# EAGLE library part CONNECTOR-HEADER-8P (library OPL)
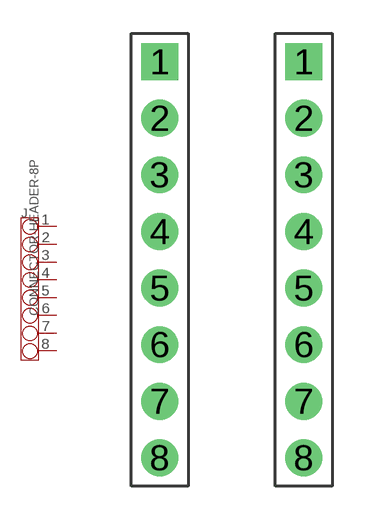
[diagram p13: symbol with the pads of 1X8P-2.54-2.54-11.6-3.0-BALCK-MALE; footprints 1X8P-2.54-2.54-11.6-3.0-BALCK-MALE, 1X8P-2.54-8.5+2.5-12.3-BLUE-FEMALE]

Designator prefix J

## CONNECTOR-HEADER-8P-3461050P1  [1X8P-2.54-2.54-11.6-3.0-BALCK-MALE]
1  1
2  2
3  3
4  4
5  5
6  6
7  7
8  8

## CONNECTOR-HEADER-8P-3461260P1  [1X8P-2.54-8.5+2.5-12.3-BLUE-FEMALE]
Pads as for 1X8P-2.54-2.54-11.6-3.0-BALCK-MALE

## CONNECTOR-HEADER-8P-3460290P1  [1X8P-2.54-8.5-BLACK-FEMALE]
Pads as for 1X8P-2.54-2.54-11.6-3.0-BALCK-MALE

## CONNECTOR-HEADER-8P-3460550P1  [1X8P-2.54-8.5-WHITE-FEMALE]
Pads as for 1X8P-2.54-2.54-11.6-3.0-BALCK-MALE

## CONNECTOR-HEADER-8P-3460590P1  [1X8P-2.54-8.5-YELLOW-FEMALE]
Pads as for 1X8P-2.54-2.54-11.6-3.0-BALCK-MALE

## Footprint 1X8P-2.54-2.54-11.6-3.0-BALCK-MALE (pad centres in mm)
drill 0.889 pad 1.651 square: 1 0,8.89
drill 0.889 pad 1.651: 2 0,6.35; 3 0,3.81; 4 0,1.27; 5 0,-1.27; 6 0,-3.81; 7 0,-6.35; 8 0,-8.89

## Footprint 1X8P-2.54-8.5+2.5-12.3-BLUE-FEMALE (pad centres in mm)
drill 0.889 pad 1.651 square: 1 0,8.89
drill 0.889 pad 1.651: 2 0,6.35; 3 0,3.81; 4 0,1.27; 5 0,-1.27; 6 0,-3.81; 7 0,-6.35; 8 0,-8.89

## Footprint 1X8P-2.54-8.5-BLACK-FEMALE (pad centres in mm)
drill 0.889 pad 1.651 square: 1 0,8.89
drill 0.889 pad 1.651: 2 0,6.35; 3 0,3.81; 4 0,1.27; 5 0,-1.27; 6 0,-3.81; 7 0,-6.35; 8 0,-8.89

## Footprint 1X8P-2.54-8.5-WHITE-FEMALE (pad centres in mm)
drill 0.889 pad 1.651 square: 1 0,8.89
drill 0.889 pad 1.651: 2 0,6.35; 3 0,3.81; 4 0,1.27; 5 0,-1.27; 6 0,-3.81; 7 0,-6.35; 8 0,-8.89

## Footprint 1X8P-2.54-8.5-YELLOW-FEMALE (pad centres in mm)
drill 0.889 pad 1.651 square: 1 0,8.89
drill 0.889 pad 1.651: 2 0,6.35; 3 0,3.81; 4 0,1.27; 5 0,-1.27; 6 0,-3.81; 7 0,-6.35; 8 0,-8.89